# Altium footprint library PowerConnector.PcbLib: 5 footprints
Each footprint in its own frame and in the unit in brackets; x right, y up, seen from the top. Pads: shape width x height; smd on the part's side, far side on the other; paste and mask are expansions set on the pad; w line width, h text height; cw(c..) or ccw(c..) is an arc to the next point about the centre after c.
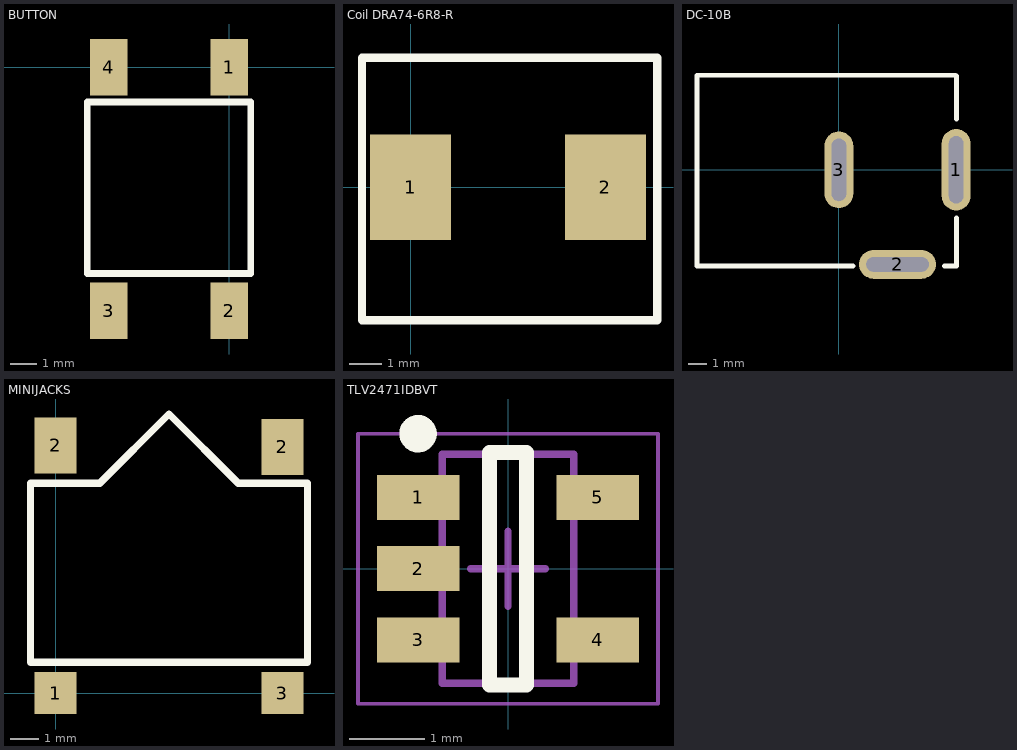
[diagram p0: the footprints below, top view; thin cyan lines are the x and y axes]

## BUTTON [mm]
pads (4):
  rect 1.4x2.1 smd: 1(0,0) 2(0,-9.1) 3(-4.5,-9.1) 4(-4.5,0)
Top Overlay:
  lines w0.254: -5.3,-7.7 -5.3,-1.3 0.8,-1.3 0.8,-7.7 -5.3,-7.7

## Coil DRA74-6R8-R [mm]
height 3.55
pads (2):
  rect 2.5x3.25 smd: 1(0,0) 2(6,0)
Top Overlay:
  lines w0.254: -1.5,-4.1 7.6,-4.1 7.6,4 -1.5,4 -1.5,-4.1

## DC-10B [mil]
pads (3):
  oval 60x170 hole 30 slot 140 at 90 deg: 1(244.09,0)
  oval 160x60 hole 30 slot 130 at 0 deg: 2(122.05,-196.85)
  oval 60x160 hole 30 slot 130 at 90 deg: 3(0,0)
Top Overlay:
  lines w10: -295.28,-200 30,-200 ; -295.28,-196.85 -295.28,196.85 0,196.85 215,196.85 ; 205,196.85 243.15,196.85 245,195 245,105 ; 220,-200 245,-200 245,-100

## MINIJACKS [mm]
pads (4):
  rect 1.5x1.5 smd: 1(0,0) 3(8.1,0)
  rect 1.5x2 smd: 2(0,8.85) 2(8.1,8.8)
Top Overlay:
  lines w0.254: -0.9,1.1 9,1.1 9,7.5 6.525,7.5 4.05,9.975 1.575,7.5 -0.9,7.5 -0.9,1.1

## TLV2471IDBVT [mm] "SOT23, 5-Leads, Body 2,90x2,80mm, Pitch 0,95mm, IPC Medium Density"
height 1.45
pads (5):
  rect 1.1x0.6 smd: 1(-1.2,0.95) 2(-1.2,0) 3(-1.2,-0.95) 4(1.2,-0.95) 5(1.2,0.95)
Top Overlay:
  circle w0.25: c-1.2,1.8 r0.125
  lines w0.2: -0.25,-1.55 -0.25,1.55 0.25,1.55 0.25,-1.55 -0.25,-1.55
Mechanical 13:
  lines w0.1: -0.875,-1.525 0.875,-1.525 0.875,1.525 -0.875,1.525 -0.875,-1.525
Mechanical 15:
  lines w0.05: -2,-1.8 2,-1.8 2,1.8 -2,1.8 -2,-1.8
  lines w0.1: -0.5,0 0.5,0 ; 0,-0.5 0,0.5
3D body: height 1.45, standoff 0.15, extent -0.875,-1.525 0.875,1.525